# Altium footprint library PcbLib1.PcbLib: 6 footprints
Each footprint in its own frame and in the unit in brackets; x right, y up, seen from the top. Pads: shape width x height; smd on the part's side, far side on the other; paste and mask are expansions set on the pad; w line width, h text height; cw(c..) or ccw(c..) is an arc to the next point about the centre after c.
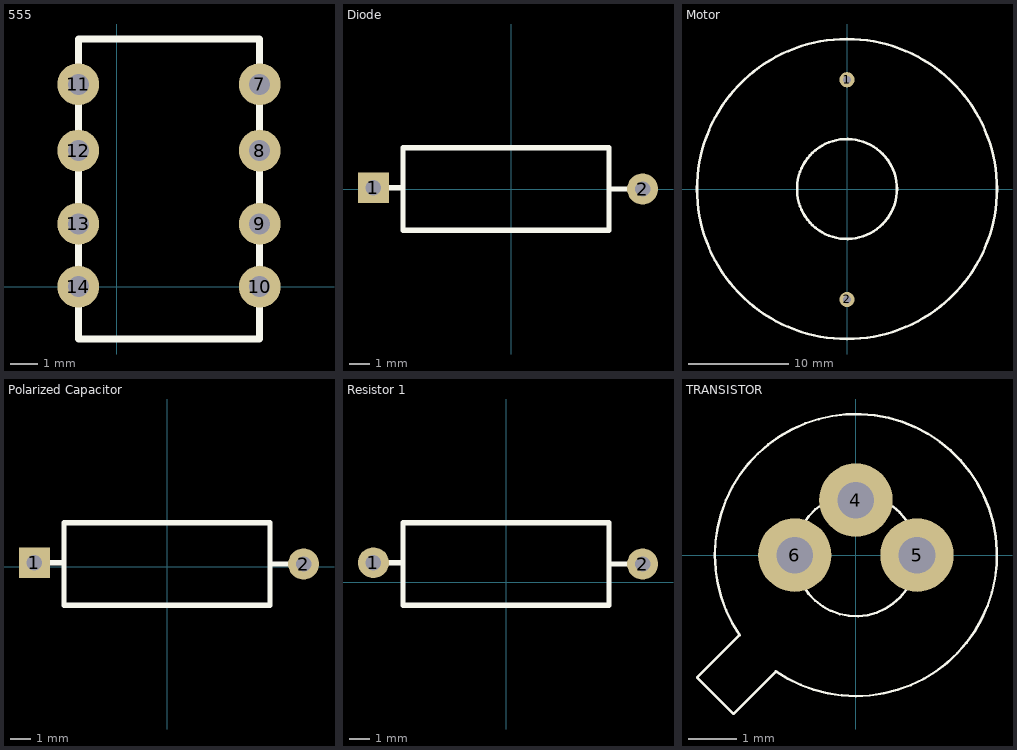
[diagram p0: the footprints below, top view; thin cyan lines are the x and y axes]

## 555 [mil]
pads (8):
  round 60 hole 30: 7(205,290) 8(205,195) 9(205,90) 10(205,0) 11(-55,290) 12(-55,195) 13(-55,90) 14(-55,0)
Top Overlay:
  lines w10: -55,-75 204.84,-75 204.84,354.92 -55,354.92 -55,-75

## Diode [mil]
pads (2):
  rect 60x60 hole 30: 1(-267.5,2.5)
  round 60 hole 30: 2(255,0)
Top Overlay:
  lines w10: -267.5,2.5 -210,2.5 ; 190,0 255,0 ; -210,-80 -210,80 190,80 190,-80 -210,-80

## Motor [mil]
pads (2):
  round 60 hole 30: 1(0,430) 2(0,-435)
Top Overlay:
  circle w10: c0,0 r590.55
  circle w10: c0,0 r196.85

## Polarized Capacitor [mil]
pads (2):
  rect 60x60 hole 30: 1(-257.5,7.5)
  round 60 hole 30: 2(265,5)
Top Overlay:
  lines w10: -257.5,7.5 -200,7.5 ; 200,5 265,5 ; -200,-75 200,-75 200,85 -200,85 -200,-75

## Resistor 1 [mil]
pads (2):
  round 60 hole 30: 1(-257.5,37.5) 2(265,35)
Top Overlay:
  lines w10: -257.5,37.5 -200,37.5 ; 200,35 265,35 ; -200,-45 200,-45 200,115 -200,115 -200,-45

## TRANSISTOR [mil]
pads (3):
  round 60 hole 30: 4(0,45) 5(50,0) 6(-50,0)
Top Overlay:
  circle w2: c0,0 r50
  lines w2: -95.27,-65.27 -130,-100 -100,-130 -65.27,-95.27 ; -95.08,-65.46 cw(c0,0) -65.46,-95.08